# Altium footprint library TSOP65P400X130-8N.PcbLib: 2 footprints
Each footprint in its own frame and in the unit in brackets; x right, y up, seen from the top. Pads: shape width x height; smd on the part's side, far side on the other; paste and mask are expansions set on the pad; w line width, h text height; cw(c..) or ccw(c..) is an arc to the next point about the centre after c.
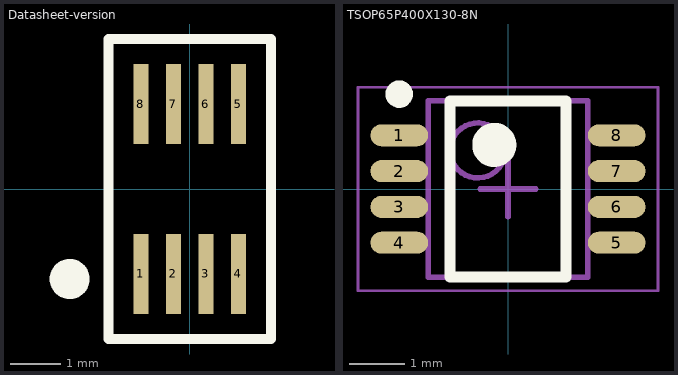
[diagram p0: the footprints below, top view; thin cyan lines are the x and y axes]

## Datasheet-version [mm] "NOT USED CURRENTLY"
pads (8):
  rect 0.3x1.6 smd: 1(-0.975,-1.7) 2(-0.325,-1.7) 3(0.325,-1.7) 4(0.975,-1.7) 5(0.975,1.7) 6(0.325,1.7) 7(-0.325,1.7) 8(-0.975,1.7)
Top Overlay:
  circle w0.4: c-2.4,-1.8 r0.2
  lines w0.2: -1.625,-3 -1.625,0 -1.625,3 0,3 1.625,3 1.625,0 1.625,-3 0,-3 -1.625,-3

## TSOP65P400X130-8N [mm] "TSOP, 8-Leads, Body 2,95x2,80mm, Pitch 0,65mm, IPC Medium Density"
height 1.3
pads (8):
  oval 1.05x0.4 smd: 1(-1.975,0.975) 2(-1.975,0.325) 3(-1.975,-0.325) 4(-1.975,-0.975) 5(1.975,-0.975) 6(1.975,-0.325) 7(1.975,0.325) 8(1.975,0.975)
Top Overlay:
  circle w0.4: c-0.25,0.8 r0.2
  circle w0.25: c-1.975,1.725 r0.125
  lines w0.2: -1.05,-1.6 1.05,-1.6 1.05,1.6 -1.05,1.6 -1.05,-1.6
Mechanical 13:
  circle w0.1: c-0.55,0.7 r0.5
  lines w0.1: -1.45,-1.6 1.45,-1.6 1.45,1.6 -1.45,1.6 -1.45,-1.6
Mechanical 15:
  lines w0.05: -2.725,-1.85 2.725,-1.85 2.725,1.85 -2.725,1.85 -2.725,-1.85
  lines w0.1: -0.5,0 0.5,0 ; 0,-0.5 0,0.5
3D body: height 1.3, standoff 0.25, extent -1.45,-1.6 1.45,1.6